# EAGLE library part LAN8710 (library JLB6_Processor)
Ethernet Phy LAN8710 SMSC
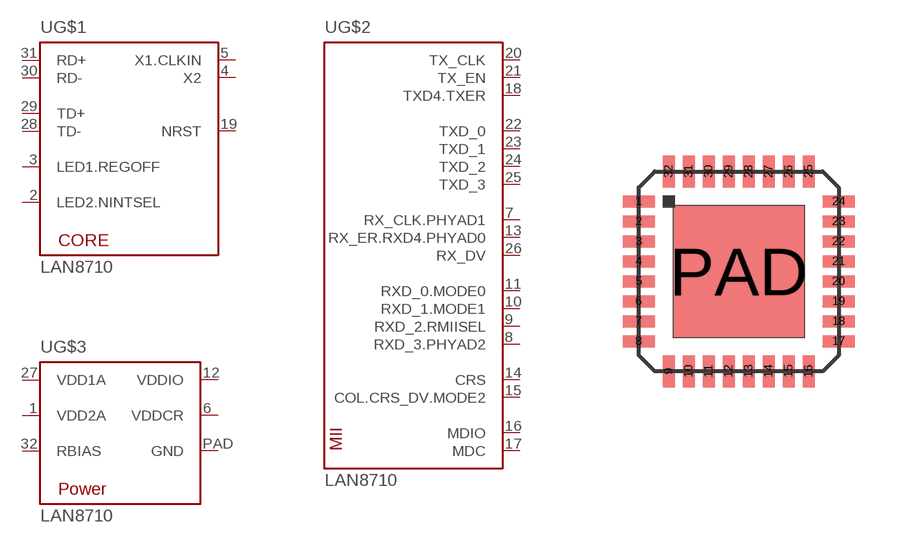
[diagram p28: symbol with the pads of QFN32-A; footprint QFN32-A]

Designator prefix U; gates G$1=LAN8710_CORE G$2=LAN8710_MII G$3=LAN8710_POWER

## LAN8710  [QFN32-A]
1  G$3:VDD2A  pwr
2  G$1:LED2.NINTSEL
3  G$1:LED1.REGOFF
4  G$1:X2  out
5  G$1:X1.CLKIN  in
6  G$3:VDDCR  pwr
7  G$2:RX_CLK.PHYAD1
8  G$2:RXD_3.PHYAD2
9  G$2:RXD_2.RMIISEL
10  G$2:RXD_1.MODE1
11  G$2:RXD_0.MODE0
12  G$3:VDDIO  pwr
13  G$2:RX_ER.RXD4.PHYAD0
14  G$2:CRS
15  G$2:COL.CRS_DV.MODE2
16  G$2:MDIO
17  G$2:MDC  in
18  G$2:TXD4.TXER
19  G$1:NRST  out
20  G$2:TX_CLK  out
21  G$2:TX_EN
22  G$2:TXD_0
23  G$2:TXD_1
24  G$2:TXD_2
25  G$2:TXD_3
26  G$2:RX_DV
27  G$3:VDD1A  pwr
28  G$1:TD-
29  G$1:TD+
30  G$1:RD-
31  G$1:RD+
32  G$3:RBIAS  in
PAD  G$3:GND  pwr

## Footprint QFN32-A (pad centres in mm)
smd 0.8 x 0.3: 1 -2.5,1.75; 2 -2.5,1.25; 3 -2.5,0.75; 4 -2.5,0.25; 5 -2.5,-0.25; 6 -2.5,-0.75; 7 -2.5,-1.25; 8 -2.5,-1.75; 17 2.5,-1.75; 18 2.5,-1.25; 19 2.5,-0.75; 20 2.5,-0.25; 21 2.5,0.25; 22 2.5,0.75; 23 2.5,1.25; 24 2.5,1.75
smd 0.3 x 0.8: 9 -1.75,-2.5; 10 -1.25,-2.5; 11 -0.75,-2.5; 12 -0.25,-2.5; 13 0.25,-2.5; 14 0.75,-2.5; 15 1.25,-2.5; 16 1.75,-2.5; 25 1.75,2.5; 26 1.25,2.5; 27 0.75,2.5; 28 0.25,2.5; 29 -0.25,2.5; 30 -0.75,2.5; 31 -1.25,2.5; 32 -1.75,2.5
smd 3.3 x 3.3: PAD 0,0